# Altium schematic symbol library RTCMCP7041X.SchLib: 1 symbol
Pins are listed as number, name and electrical type; pins without a type are passive.

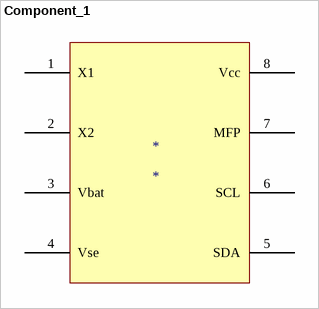
[diagram p0: symbol Component_1]

## Component_1
designator *
footprint SO8
pins: 1 X1, 2 X2, 3 Vbat, 4 Vse, 5 SDA, 6 SCL, 7 MFP, 8 Vcc